# Altium integrated library Torex Semiconductor Voltage Regulators.IntLib: 1 symbol
Pins are listed as number, name and electrical type; pins without a type are passive.

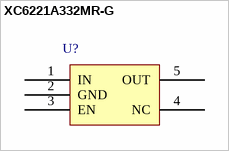
[diagram p0: symbol XC6221A332MR-G]

## XC6221A332MR-G
designator U?
Linear Voltage Regulator IC Positive Fixed 1 Output 3.3V 200mA SOT-25; Manufacture: Torex Semiconductor Ltd; PartNumber: XC6221A332MR; Package: SOT-25; PackageDescription: Small Outline Transistor 5 Leads; Supplier 1: Digi-Key; Supplier Part Number 1: 893-1094-2-ND
footprint SOT95P280X130-5L (SOT23, 5-Leads, Body 3.1x3.0mm (max), Pitch 0.95mm, IPC High Density)
footprint SOT95P280X130-5M (SOT23, 5-Leads, Body 3.1x3.0mm (max), Pitch 0.95mm, IPC Low Density)
footprint SOT95P280X130-5N (SOT23, 5-Leads, Body 3.1x3.0mm (max), Pitch 0.95mm, IPC Medium Density)
pins: 1 IN (power) "Power in", 2 GND (power) "Ground", 3 EN, 4 NC "Noise Reject/Feedback", 5 OUT "Power OUT"